# Altium schematic symbol library 12_RESISTORS_THD_AX14_8mm_S.SchLib: 9 symbols
Pins are listed as number, name and electrical type; pins without a type are passive.

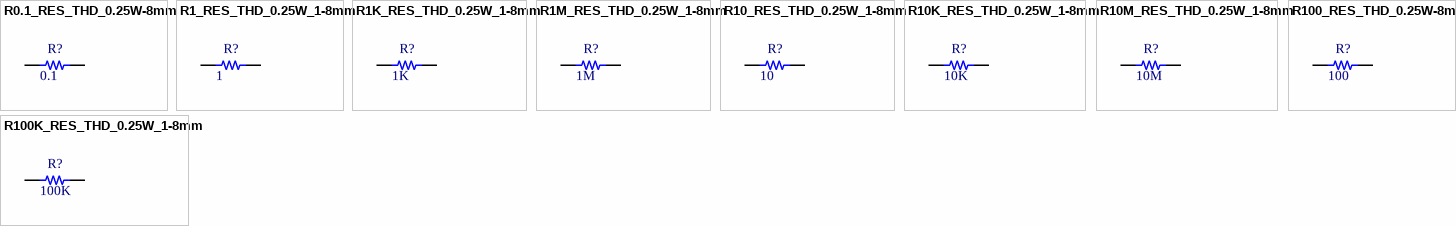
[diagram p0: symbols R0.1_RES_THD_0.25W-8mm to R100K_RES_THD_0.25W_1-8mm]

## R0.1_RES_THD_0.25W-8mm
designator R?  value 0.1  (hidden comment: *)
RESISTOR_0.1Ohm_THD_0.25W-8mm; Pacakge: THT; Rating: 0.25W; Type: 5%
footprint R0.1_RES_THD_AX14_0.25W (RESISTOR 0.1 Ohm  THD AX14 0.25W Length  8mm)
pins: 1, 2

## R1_RES_THD_0.25W_1-8mm
designator R?  value 1  (hidden comment: *)
RESISTOR_1Ohm_THD_0.25W-8mm; Pacakge: THT; Rating: 0.25W; Type: 5%
footprint R1_RES_THD_AX14_0.25W (RESISTOR 1 Ohm  THD AX14 0.25W Length  8mm)
pins: 1, 2

## R1K_RES_THD_0.25W_1-8mm
designator R?  value 1K  (hidden comment: *)
RESISTOR_1KOhm_THD_0.25W-8mm; Pacakge: THT; Rating: 0.25W; Type: 5%
footprint R1K_RES_THD_AX14_0.25W (RESISTOR 1K Ohm  THD AX14 0.25W Length  8mm)
pins: 1, 2

## R1M_RES_THD_0.25W_1-8mm
designator R?  value 1M  (hidden comment: *)
RESISTOR_1MOhm_THD_0.25W-8mm; Pacakge: THT; Rating: 0.25W; Type: 5%
footprint R1M_RES_THD_AX14_0.25W (RESISTOR 1M Ohm  THD AX14 0.25W Length  8mm)
pins: 1, 2

## R10_RES_THD_0.25W_1-8mm
designator R?  value 10  (hidden comment: *)
RESISTOR_10Ohm_THD_0.25W-8mm; Pacakge: THT; Rating: 0.25W; Type: 5%
footprint R10_RES_THD_AX14_0.25W (RESISTOR 10 Ohm  THD AX14 0.25W Length  8mm)
pins: 1, 2

## R10K_RES_THD_0.25W_1-8mm
designator R?  value 10K  (hidden comment: *)
RESISTOR_10KOhm_THD_0.25W-8mm; Pacakge: THT; Rating: 0.25W; Type: 5%
footprint R10K_RES_THD_AX14_0.25W (RESISTOR 10K Ohm  THD AX14 0.25W Length  8mm)
pins: 1, 2

## R10M_RES_THD_0.25W_1-8mm
designator R?  value 10M  (hidden comment: *)
RESISTOR_10MOhm_THD_0.25W-8mm; Pacakge: THT; Rating: 0.25W; Type: 5%
footprint R10M_RES_THD_AX14_0.25W (RESISTOR 10M Ohm  THD AX14 0.25W Length  8mm)
pins: 1, 2

## R100_RES_THD_0.25W-8mm
designator R?  value 100  (hidden comment: *)
RESISTOR_100Ohm_THD_0.25W-8mm; Pacakge: THT; Rating: 0.25W; Type: 5%; Parameter 1: *
footprint R100_RES_THD_AX14_0.25W (RESISTOR 100 Ohm  THD AX14 0.25W Length  8mm)
pins: 1, 2

## R100K_RES_THD_0.25W_1-8mm
designator R?  value 100K  (hidden comment: *)
RESISTOR_100KOhm_THD_0.25W-8mm; Pacakge: THT; Rating: 0.25W; Type: 5%
footprint R100K_RES_THD_AX14_0.25W (RESISTOR 100K Ohm  THD AX14 0.25W Length  8mm)
pins: 1, 2